# Altium footprint library IN3ATOR.PcbLib: 42 footprints (part 2 of 3)
Each footprint in its own frame and in the unit in brackets; x right, y up, seen from the top. Pads: shape width x height; smd on the part's side, far side on the other; paste and mask are expansions set on the pad; w line width, h text height; cw(c..) or ccw(c..) is an arc to the next point about the centre after c.
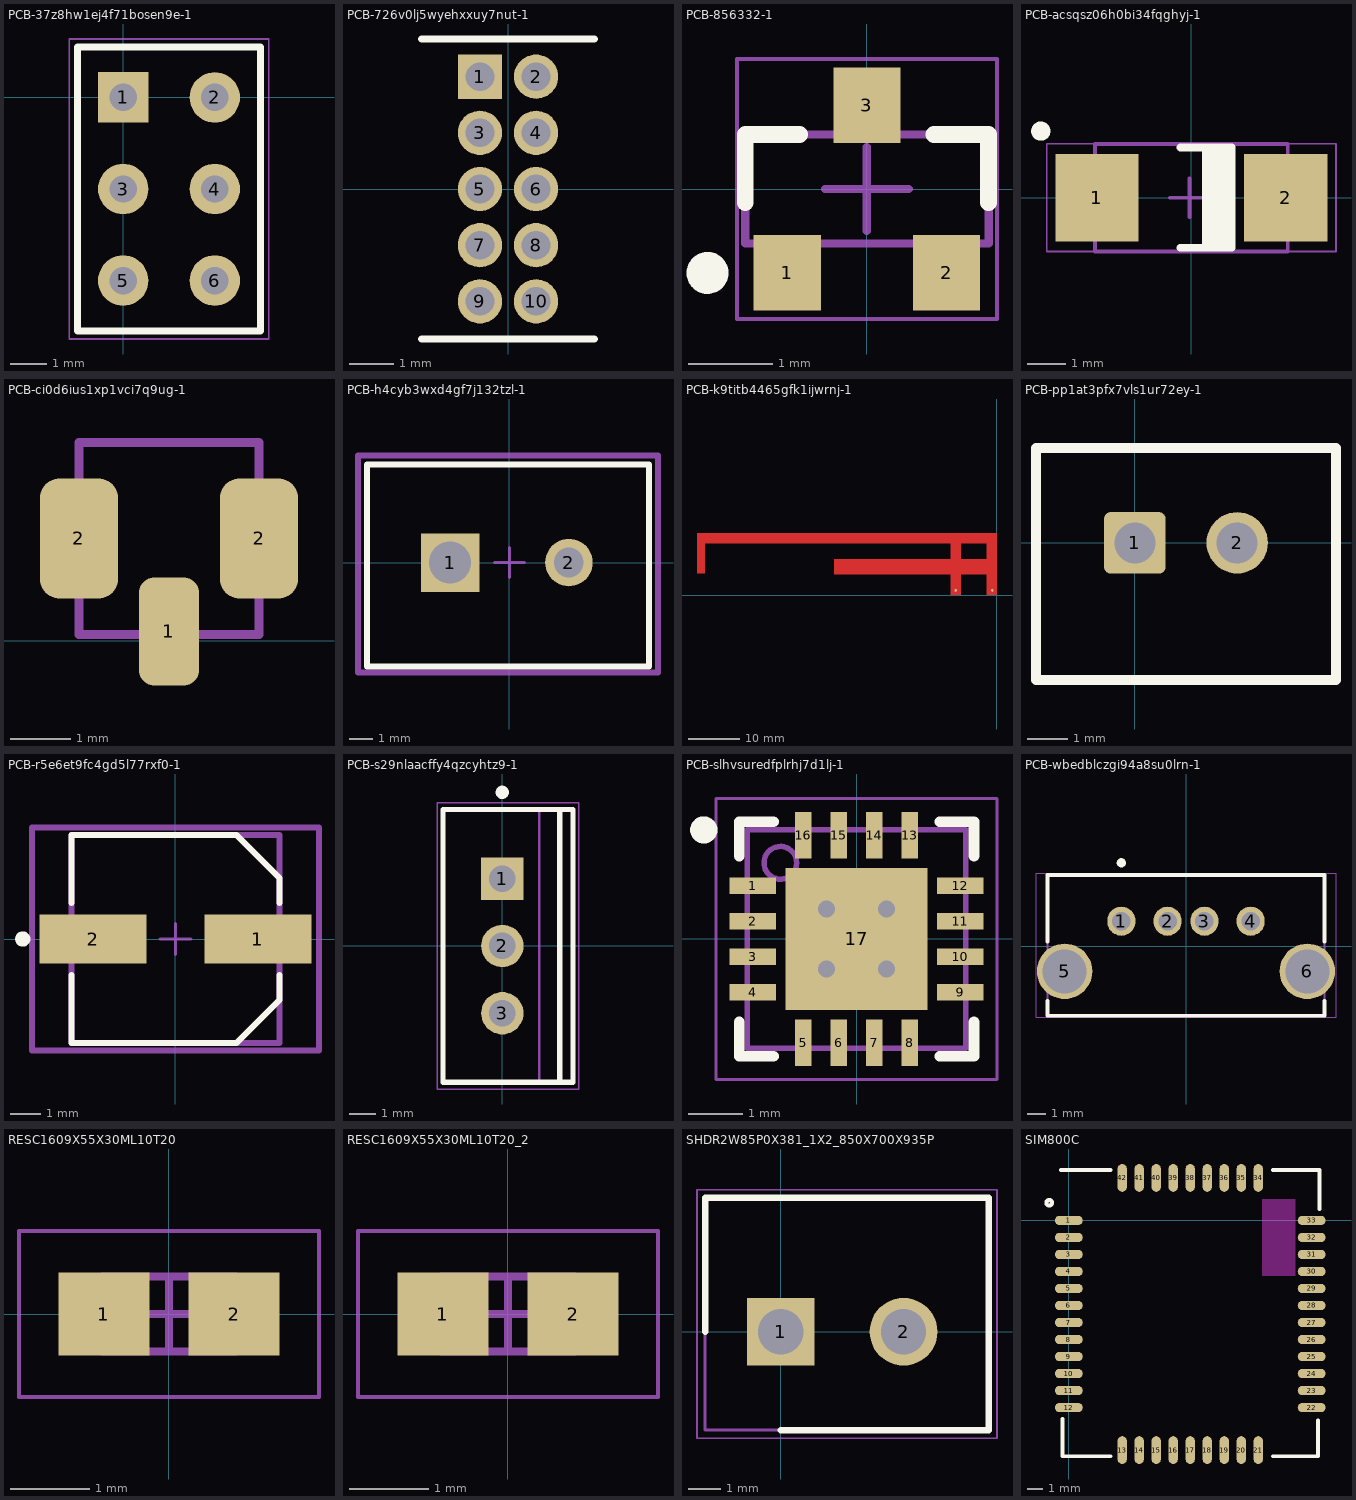
[diagram p1: the footprints below, top view; thin cyan lines are the x and y axes]

## PCB-37z8hw1ej4f71bosen9e-1 [mm]
pads (6):
  rect 1.4x1.4 hole 0.762: 1(0,0)
  round 1.4 hole 0.762: 2(2.54,0) 3(0,-2.54) 4(2.54,-2.54) 5(0,-5.08) 6(2.54,-5.08)
Top Overlay:
  lines w0.2: -1.27,-6.475 -1.27,1.395 3.81,1.395 3.81,-6.475 -1.27,-6.475
Mechanical 13:
  lines w0.1: -1.27,-6.475 3.81,-6.475 3.81,1.395 -1.27,1.395 -1.27,-6.475
Mechanical 15:
  lines w0.05: -1.495,-6.7 -1.495,1.62 4.035,1.62 4.035,-6.7 -1.495,-6.7
3D body "SLW-103-01-T-D.stp": height 4.57, standoff -2.92, extent -1.207,-6.35 3.747,1.27

## PCB-726v0lj5wyehxxuy7nut-1 [mm]
pads (10):
  rect 1x1 hole 0.65: 1(-0.635,2.54)
  round 1 hole 0.65: 2(0.635,2.54) 3(-0.635,1.27) 4(0.635,1.27) 5(-0.635,0) 6(0.635,0) 7(-0.635,-1.27) 8(0.635,-1.27) 9(-0.635,-2.54) 10(0.635,-2.54)
Top Overlay:
  lines w0.152: -1.956,-3.391 1.956,-3.391 ; -1.956,3.391 1.956,3.391

## PCB-856332-1 [mm]
pads (3):
  rect 0.8x0.9 smd: 1(-0.95,-1) 2(0.95,-1) 3(0,1)
Top Overlay:
  circle w0.25: c-1.9,-1 r0.125
  lines w0.2: -1.45,-0.163 -1.45,0.65 -0.8,0.65 ; 0.8,0.65 1.45,0.65 1.45,-0.163
Mechanical 13:
  lines w0.1: -1.45,-0.65 1.45,-0.65 1.45,0.65 -1.45,0.65 -1.45,-0.65
Mechanical 15:
  lines w0.05: -1.55,-1.55 1.55,-1.55 1.55,1.55 -1.55,1.55 -1.55,-1.55
  lines w0.1: -0.5,0 0.5,0 ; 0,-0.5 0,0.5
3D body "DIOD-SOT23-3_V.stp": height 1.2, standoff 0.01, extent -1.45,-0.65 1.45,0.65

## PCB-acsqsz06h0bi34fqghyj-1 [mm]
pads (2):
  rect 2.16x2.26 smd: 1(-2.45,0) 2(2.45,0)
Top Overlay:
  circle w0.25: c-3.904,1.727 r0.125
  region: 1.05,1.298 0.273,1.298 0.273,-1.302 1.05,-1.302
  lines w0.2: -0.285,-1.3 1.05,-1.3 1.05,1.3 -0.285,1.3
Mechanical 13:
  lines w0.1: -2.5,-1.397 2.5,-1.397 2.5,1.397 -2.5,1.397 -2.5,-1.397
Mechanical 15:
  lines w0.05: -3.75,-1.4 -3.75,1.4 3.75,1.4 3.75,-1.4 -3.75,-1.4
  lines w0.1: -0.55,0 0.45,0 ; -0.05,-0.5 -0.05,0.5
3D body "User Library-DO-214AC_SMA.step": height 2.15, standoff -0.05, extent -2.5,-1.35 2.5,1.35

## PCB-ci0d6ius1xp1vci7q9ug-1 [mm]
pads (3):
  rrect50% 1x1.8 smd: 1(2.9,0.15)
  rrect50% 1.3x2 smd: 2(1.4,1.7) 2(4.4,1.7)
Mechanical 15:
  lines w0.15: 1.4,0.1 4.4,0.1 4.4,3.3 1.4,3.3 1.4,0.1
3D body "U_FL-R-SMT-1.step": height 1.28, standoff 0.02, extent 1.4,0.15 4.4,3.25

## PCB-h4cyb3wxd4gf7j132tzl-1 [mm]
pads (2):
  rect 2.5x2.5 hole 1.8: 1(-2.54,0)
  round 2.032 hole 1.27: 2(2.54,0)
Top Overlay:
  lines w0.254: -6.096,-4.445 -6.096,-3.302 -6.096,4.191 5.969,4.191 5.969,-3.048 5.969,-3.683 5.969,-4.445 -4.445,-4.445 -6.096,-4.445
Mechanical 8:
  lines w0.254: -6.477,-4.699 6.35,-4.699 6.35,4.572 -6.477,4.572 -6.477,-4.699
Mechanical 15:
  lines w0.127: -0.635,0 0.635,0 ; 0,-0.635 0,0.635
3D body "2EDG-5.08-02P.STEP": height 21.08, standoff -4, extent -5.78,-11.938 5.78,3.672

## PCB-k9titb4465gfk1ijwrnj-1 [mil]
pads (2):
  round 20 smd mask+4: 1(-315,35) 2(-35,35)
Top Layer:
  region: -2220.87,471.42 -2283.46,471.42 -2283.46,164.33 -2220.87,164.33
  region: -35.65,275.59 -1240.18,275.59 -1240.18,157.48 -35.65,157.48
  region: -275.59,472.44 -354.33,472.44 -354.33,0 -275.59,0
  region: 0,472.44 -2283.46,472.44 -2283.46,393.7 0,393.7
  region: 0,472.44 -78.74,472.44 -78.74,0 0,0

## PCB-pp1at3pfx7vls1ur72ey-1 [mil]
pads (2):
  rrect20% 60x60 hole 40: 1(0,0)
  round 60 hole 40: 2(100,0)
Top Overlay:
  lines w10: -96.46,-133.86 -96.46,92.52 196.46,92.52 196.46,-133.86 -96.46,-133.86
3D body "JST-XH - 2Pin v1.step": height 284, standoff -118, extent -92,-132 192,98

## PCB-r5e6et9fc4gd5l77rxf0-1 [mm]
pads (2):
  rect 3.5x1.6 smd paste+0 mask+0: 1(2.7,0) 2(-2.7,0)
Top Overlay:
  circle w0.25: c-5,0 r0.125
  lines w0.2: -3.4,-1.175 -3.4,-3.4 2,-3.4 3.4,-2 3.4,-1.175 ; -3.4,1.175 -3.4,3.4 2,3.4 3.4,2 3.4,1.175
Mechanical 10:
  lines w0.2: -4.7,-3.65 -4.7,3.65 4.7,3.65 4.7,-3.65 -4.7,-3.65
  text ".Designator" at 0,0.188 h1
Mechanical 12:
  lines w0.2: -3.4,-3.4 -3.4,3.4 3.4,3.4 3.4,-3.4 -3.4,-3.4
Mechanical 15:
  lines w0.1: -0.5,0 0.5,0 ; 0,-0.5 0,0.5
  lines w0.2: -4.7,-3.65 -4.7,3.65 4.7,3.65 4.7,-3.65 -4.7,-3.65
3D body "Cap_Nichicon_UWT1V101MCL1GS_eec.STEP": height 0.25, standoff 0, extent -4.7,-3.65 4.7,3.65

## PCB-s29nlaacffy4qzcyhtz9-1 [mm]
pads (3):
  rect 1.6x1.6 hole 1: 1(0,2.54)
  round 1.6 hole 1: 2(0,0) 3(0,-2.54)
Top Overlay:
  circle w0.25: c0,5.8 r0.125
  lines w0.2: 2.165,-5.15 2.165,5.15 ; -2.235,-5.15 -2.235,5.15 2.665,5.15 2.665,-5.15 -2.235,-5.15
Mechanical 13:
  lines w0.1: 1.39,-5.15 1.39,5.15 ; -2.21,-5.15 2.64,-5.15 2.64,5.15 -2.21,5.15 -2.21,-5.15
Mechanical 15:
  lines w0.05: -2.46,-5.4 2.89,-5.4 2.89,5.4 -2.46,5.4 -2.46,-5.4
  lines w0.1: -0.5,0 0.5,0 ; 0,-0.5 0,0.5
3D body: height 2.8, standoff 0, extent -0.23,1.87 0.23,3.21
3D body: height 0, standoff -1.6, extent -0.23,2.16 0.23,2.92
3D body: height 2.8, standoff 0, extent -0.23,-0.67 0.23,0.67
3D body: height 0, standoff -1.6, extent -0.23,-0.38 0.23,0.38
3D body: height 2.8, standoff 0, extent -0.23,-3.21 0.23,-1.87
3D body: height 0, standoff -1.6, extent -0.23,-2.92 0.23,-2.16
3D body: height 13.48, standoff 2.8, extent -2.21,-5.15 2.64,5.15
3D body: height 15.06, standoff 13.48, extent 1.39,-4.975 2.64,4.975
3D body: height 15.1, standoff 15.06, extent 1.39,0.356 2.64,4.975
3D body: height 15.1, standoff 15.06, extent 1.39,-4.975 2.64,-0.356
3D body: height 18.71, standoff 18.67, extent 1.39,0.356 2.64,4.975
3D body: height 18.71, standoff 18.67, extent 1.39,-4.975 2.64,-0.356
3D body: height 15.2, standoff 15.09, extent 1.39,0.698 2.64,4.975
3D body: height 15.2, standoff 15.09, extent 1.39,-4.975 2.64,-0.698
3D body: height 18.67, standoff 18.57, extent 1.39,0.698 2.64,4.975
3D body: height 18.67, standoff 18.57, extent 1.39,-4.975 2.64,-0.698
3D body: height 15.37, standoff 15.19, extent 1.39,1.014 2.64,4.975
3D body: height 15.37, standoff 15.19, extent 1.39,-4.975 2.64,-1.014
3D body: height 18.57, standoff 18.4, extent 1.39,1.014 2.64,4.975
3D body: height 18.57, standoff 18.4, extent 1.39,-4.975 2.64,-1.014
3D body: height 15.59, standoff 15.36, extent 1.39,1.29 2.64,4.975
3D body: height 15.59, standoff 15.36, extent 1.39,-4.975 2.64,-1.29
3D body: height 18.4, standoff 18.17, extent 1.39,1.29 2.64,4.975
3D body: height 18.4, standoff 18.17, extent 1.39,-4.975 2.64,-1.29
3D body: height 15.87, standoff 15.59, extent 1.39,1.517 2.64,4.975
3D body: height 15.87, standoff 15.59, extent 1.39,-4.975 2.64,-1.517
3D body: height 18.18, standoff 17.89, extent 1.39,1.517 2.64,4.975
3D body: height 18.18, standoff 17.89, extent 1.39,-4.975 2.64,-1.517
3D body: height 16.19, standoff 15.87, extent 1.39,1.686 2.64,4.975
3D body: height 16.19, standoff 15.87, extent 1.39,-4.975 2.64,-1.686
3D body: height 17.9, standoff 17.58, extent 1.39,1.686 2.64,4.975
3D body: height 17.9, standoff 17.58, extent 1.39,-4.975 2.64,-1.686
3D body: height 16.53, standoff 16.18, extent 1.39,1.79 2.64,4.975
3D body: height 16.53, standoff 16.18, extent 1.39,-4.975 2.64,-1.79
3D body: height 17.58, standoff 17.24, extent 1.39,1.79 2.64,4.975
3D body: height 17.58, standoff 17.24, extent 1.39,-4.975 2.64,-1.79
3D body: height 16.88, standoff 16.52, extent 1.39,1.825 2.64,4.975
3D body: height 16.88, standoff 16.52, extent 1.39,-4.975 2.64,-1.825
3D body: height 17.24, standoff 16.88, extent 1.39,1.825 2.64,4.975
3D body: height 17.24, standoff 16.88, extent 1.39,-4.975 2.64,-1.825
3D body: height 19.68, standoff 18.71, extent 1.39,-4.975 2.64,4.975

## PCB-slhvsuredfplrhj7d1lj-1 [mm]
pads (17):
  rect 0.85x0.3 smd paste-0.038: 1(-1.9,0.975) 2(-1.9,0.325) 3(-1.9,-0.325) 4(-1.9,-0.975) 9(1.9,-0.975) 10(1.9,-0.325) 11(1.9,0.325) 12(1.9,0.975)
  rect 0.3x0.85 smd paste-0.038: 5(-0.975,-1.9) 6(-0.325,-1.9) 7(0.325,-1.9) 8(0.975,-1.9) 13(0.975,1.9) 14(0.325,1.9) 15(-0.325,1.9) 16(-0.975,1.9)
  rect 2.6x2.6 smd paste-0.381: 17(0,0)
via -0.55,-0.55 diameter 0.56 hole 0.31
via 0.55,-0.55 diameter 0.56 hole 0.31
via -0.55,0.55 diameter 0.56 hole 0.31
via 0.55,0.55 diameter 0.56 hole 0.31
Top Overlay:
  circle w0.25: c-2.8,2 r0.125
  lines w0.2: -2.15,-1.525 -2.15,-2.15 -1.525,-2.15 ; -2.15,1.525 -2.15,2.15 -1.525,2.15 ; 1.525,-2.15 2.15,-2.15 2.15,-1.525 ; 1.525,2.15 2.15,2.15 2.15,1.525
Mechanical 11:
  circle w0.1: c-1.397,1.397 r0.3
  lines w0.1: -2,-2 -2,2 2,2 2,-2 -2,-2
  text "'.Designator'" at -0.381,0.635 h0.76
Mechanical 15:
  lines w0.05: -2.575,-2.575 -2.575,2.575 2.575,2.575 2.575,-2.575 -2.575,-2.575
  lines w0.1: -0.5,0 0.5,0 ; 0,-0.5 0,0.5
3D body "QFN127P600-8N.step": height 0.5, standoff 0, extent -2.001,-2.001 2.001,2.001

## PCB-wbedblczgi94a8su0lrn-1 [mm]
pads (6):
  oval 1.524x1.575 hole 1: 1(-3.5,1.355) 2(-1,1.355) 3(1,1.355) 4(3.5,1.355)
  round 3 hole 2.38: 5(-6.57,-1.355) 6(6.57,-1.355)
Top Overlay:
  circle w0.25: c-3.5,4.515 r0.125
  lines w0.2: -7.5,-2.954 -7.5,-3.755 7.5,-3.755 7.5,-2.954 ; -7.5,0.244 -7.5,3.852 7.5,3.852 7.5,0.244
Mechanical 13:
  lines w0.1: -7.5,-3.755 -7.5,3.865 7.5,3.865 7.5,-3.755 -7.5,-3.755
Mechanical 15:
  lines w0.05: -8.12,-3.855 -8.12,3.965 8.12,3.965 8.12,-3.855 -8.12,-3.855
3D body "c-1734366-3-c-3d.stp": height 15.01, standoff -3.92, extent -7.899,-3.56 7.898,3.56

## RESC1609X55X30ML10T20 [mm]
pads (2):
  rect 1.15x1.05 smd: 1(-0.825,0) 2(0.825,0)
Mechanical 13:
  lines w0.1: -0.85,-0.475 0.85,-0.475 0.85,0.475 -0.85,0.475 -0.85,-0.475
Mechanical 15:
  lines w0.05: -1.9,-1.05 1.9,-1.05 1.9,1.05 -1.9,1.05 -1.9,-1.05
  lines w0.1: -0.475,0 0.475,0 ; 0,-0.475 0,0.475
3D body: height 0.55, standoff 0, extent 0.55,-0.475 0.85,0.475
3D body: height 0.55, standoff 0, extent -0.85,-0.475 -0.55,0.475
3D body: height 0.55, standoff 0, extent -0.55,-0.475 0.55,0.475

## RESC1609X55X30ML10T20_2 [mm]
pads (2):
  rect 1.15x1.05 smd: 1(-0.825,0) 2(0.825,0)
Mechanical 13:
  lines w0.1: -0.85,-0.475 0.85,-0.475 0.85,0.475 -0.85,0.475 -0.85,-0.475
Mechanical 15:
  lines w0.05: -1.9,-1.05 1.9,-1.05 1.9,1.05 -1.9,1.05 -1.9,-1.05
  lines w0.1: -0.475,0 0.475,0 ; 0,-0.475 0,0.475
3D body: height 0.55, standoff 0, extent 0.55,-0.475 0.85,0.475
3D body: height 0.55, standoff 0, extent -0.85,-0.475 -0.55,0.475
3D body: height 0.55, standoff 0, extent -0.55,-0.475 0.55,0.475

## SHDR2W85P0X381_1X2_850X700X935P [mm]
pads (2):
  rect 2.1x2.1 hole 1.4: 1(0,0)
  round 2.1 hole 1.4: 2(3.81,0)
Top Overlay:
  lines w0.2: -2.345,0 -2.345,4.15 6.455,4.15 6.455,-3.05 0,-3.05
Mechanical 13:
  lines w0.1: -2.345,-3.05 6.455,-3.05 6.455,4.15 -2.345,4.15 -2.345,-3.05
Mechanical 15:
  lines w0.05: -2.595,-3.3 6.705,-3.3 6.705,4.4 -2.595,4.4 -2.595,-3.3
3D body "WJ15EDGVC-3.81-2P.stp": height 9.35, standoff -3.7, extent -2.345,-3.5 6.155,3.5

## SIM800C [mm]
pads (42):
  oval 1.8x0.6 smd: 1(0,0) 2(0,-1.1) 3(0,-2.2) 4(0,-3.3) 5(0,-4.4) 6(0,-5.5) 7(0,-6.6) 8(0,-7.7) 9(0,-8.8) 10(0,-9.9) 11(0,-11) 12(0,-12.1) 22(15.7,-12.1) 23(15.7,-11) 24(15.7,-9.9) 25(15.7,-8.8) 26(15.7,-7.7) 27(15.7,-6.6) 28(15.7,-5.5) 29(15.7,-4.4) 30(15.7,-3.3) 31(15.7,-2.2) 32(15.7,-1.1) 33(15.7,0)
  oval 0.6x1.8 smd: 13(3.45,-14.85) 14(4.55,-14.85) 15(5.65,-14.85) 16(6.75,-14.85) 17(7.85,-14.85) 18(8.95,-14.85) 19(10.05,-14.85) 20(11.15,-14.85) 21(12.25,-14.85) 34(12.25,2.75) 35(11.15,2.75) 36(10.05,2.75) 37(8.95,2.75) 38(7.85,2.75) 39(6.75,2.75) 40(5.65,2.75) 41(4.55,2.75) 42(3.45,2.75)
Top Overlay:
  circle w0.254: c-1.27,1.143 r0.18
  lines w0.254: -0.5,3.25 2.7,3.25 ; -0.4,-12.85 -0.4,-15.25 2.7,-15.25 ; 13.2,-15.25 16.1,-15.25 16.1,-12.95 ; 13.2,3.25 16.2,3.25 16.2,0.75
Keep-Out Layer:
  pour cut-out: 12.5,1.38 14.65,1.38 14.65,-3.57 12.5,-3.57
3D body "User Library-sim800c_3d.step": height 2.3, standoff 0, extent 0,-14.85 15.7,2.75